# Altium schematic symbol library MAX31865AAP+.SchLib: 1 symbol
Pins are listed as number, name and electrical type; pins without a type are passive.

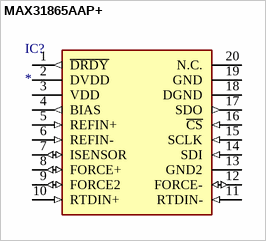
[diagram p0: symbol MAX31865AAP+]

## MAX31865AAP+
designator IC?
Integrated Circuit; Manufacturer_Name: Analog Devices; Manufacturer_Part_Number: MAX31865AAP+; Datasheet Link: https://www.analog.com/MAX31865/datasheet; Height: 1.99mm; Mouser Part Number: 700-MAX31865AAP+; Mouser Price/Stock: https://www.mouser.co.uk/ProductDetail/Analog-Devices-Maxim-Integrated/MAX31865AAP%2b?qs=PVVDbbWpW3IB0xqHe0DjLw%3D%3D; Arrow Part Number: MAX31865AAP+; Arrow Price/Stock: https://www.arrow.com/en/products/max31865aap/analog-devices.html?utm_currency=USD&region=europe
footprint SOP65P778X199-20N
pins: 1 ~{DRDY} (out), 2 DVDD (power), 3 VDD (power), 4 BIAS (out), 5 REFIN+ (in), 6 REFIN- (in), 7 ISENSOR (io), 8 FORCE+ (io), 9 FORCE2 (io), 10 RTDIN+ (in), 11 RTDIN- (in), 12 FORCE- (io), 13 GND2 (power), 14 SDI (in), 15 SCLK (in), 16 ~{CS} (in), 17 SDO (out), 18 DGND (power), 19 GND (power), 20 N.C.